# EAGLE library part MAX490CSA+ (library other)
MAX490CSA+, Line Transceiver, RS-485, RS-422 2.5Mbit/s Differential, 5V, 8-Pin SOIC Source: Datasheet <http://datasheets.maximintegrated.com/en/ds/MAX1487-MAX491.pdf>
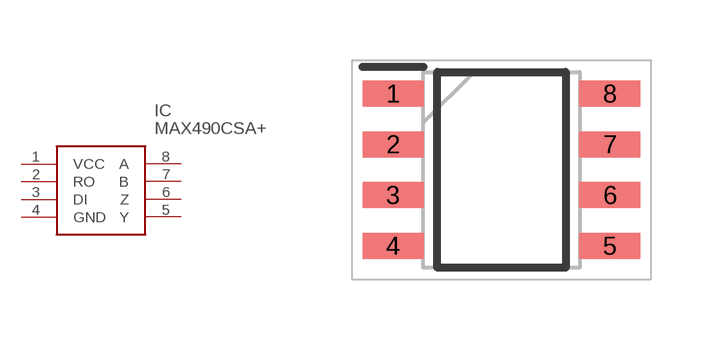
[diagram p1: symbol with the pads of SOIC127P600X175-8N; footprint SOIC127P600X175-8N]

Designator prefix IC

## MAX490CSA+ (ARROW_PART_NUMBER: MAX490CSA+; ARROW_PRICE/STOCK: http://uk.rs-online.com/web/p/products/6228181P; DESCRIPTION: MAX490CSA+, Line Transceiver, RS-485, RS-422 2.5Mbit/s Differential, 5V, 8-Pin SOIC; HEIGHT: 1.75mm; MANUFACTURER_NAME: Maxim Integrated; MANUFACTURER_PART_NUMBER: MAX490CSA+; RS_PART_NUMBER: 6228181P; RS_PRICE/STOCK: http://uk.rs-online.com/web/p/products/6228181P)  [SOIC127P600X175-8N]
1  VCC  pwr
2  RO
3  DI
4  GND  pwr
5  Y
6  Z
7  B
8  A

## Footprint SOIC127P600X175-8N (pad centres in mm)
8 SO
smd 1.525 x 0.65: 1 -2.712,1.905; 2 -2.712,0.635; 3 -2.712,-0.635; 4 -2.712,-1.905; 5 2.712,-1.905; 6 2.712,-0.635; 7 2.712,0.635; 8 2.712,1.905